# Altium schematic symbol library SCHOTTKY.SchLib: 1 symbol
Pins are listed as number, name and electrical type; pins without a type are passive.

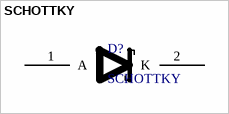
[diagram p0: symbol SCHOTTKY]

## SCHOTTKY
designator D?
Schottky diode symbol
pins: 1 A, 2 K